# EAGLE library part A4954-DUAL-HBRIDGE (library rc-parts)
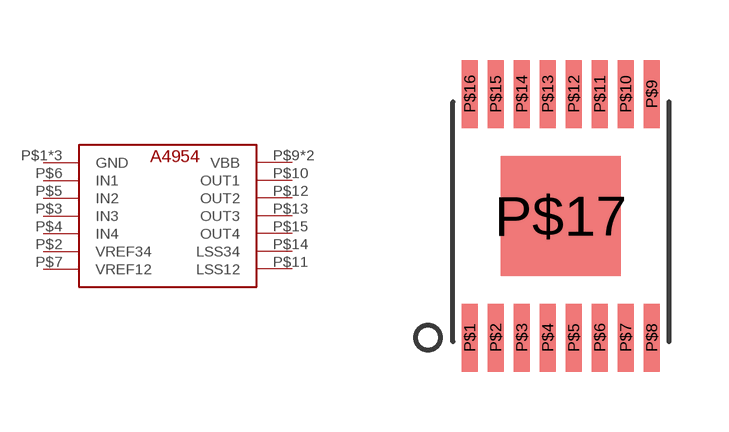
[diagram p1: symbol with the pads of TSSOP-16-LP; footprint TSSOP-16-LP]

Designator prefix -

## A4954-DUAL-HBRIDGE (MF: Allegro; MPN: A4954)  [TSSOP-16-LP]
P$1  GND
P$2  VREF34
P$3  IN3
P$4  IN4
P$5  IN2
P$6  IN1
P$7  VREF12
P$8  GND
P$9  VBB
P$10  OUT1
P$11  LSS12
P$12  OUT2
P$13  OUT3
P$14  LSS34
P$15  OUT4
P$16  VBB
P$17  GND

## Footprint TSSOP-16-LP (pad centres in mm)
smd 0.4 x 1.7: P$1 -2.275,-3.05; P$2 -1.625,-3.05; P$3 -0.975,-3.05; P$4 -0.325,-3.05; P$5 0.325,-3.05; P$6 0.975,-3.05; P$7 1.625,-3.05; P$8 2.275,-3.05; P$9 2.275,3.05; P$10 1.625,3.05; P$11 0.975,3.05; P$12 0.325,3.05; P$13 -0.325,3.05; P$14 -0.975,3.05; P$15 -1.625,3.05; P$16 -2.275,3.05
smd 3 x 3: P$17 0,0